# Altium footprint library Dien Tro.PcbLib: 30 footprints (part 2 of 2)
Each footprint in its own frame and in the unit in brackets; x right, y up, seen from the top. Pads: shape width x height; smd on the part's side, far side on the other; paste and mask are expansions set on the pad; w line width, h text height; cw(c..) or ccw(c..) is an arc to the next point about the centre after c.
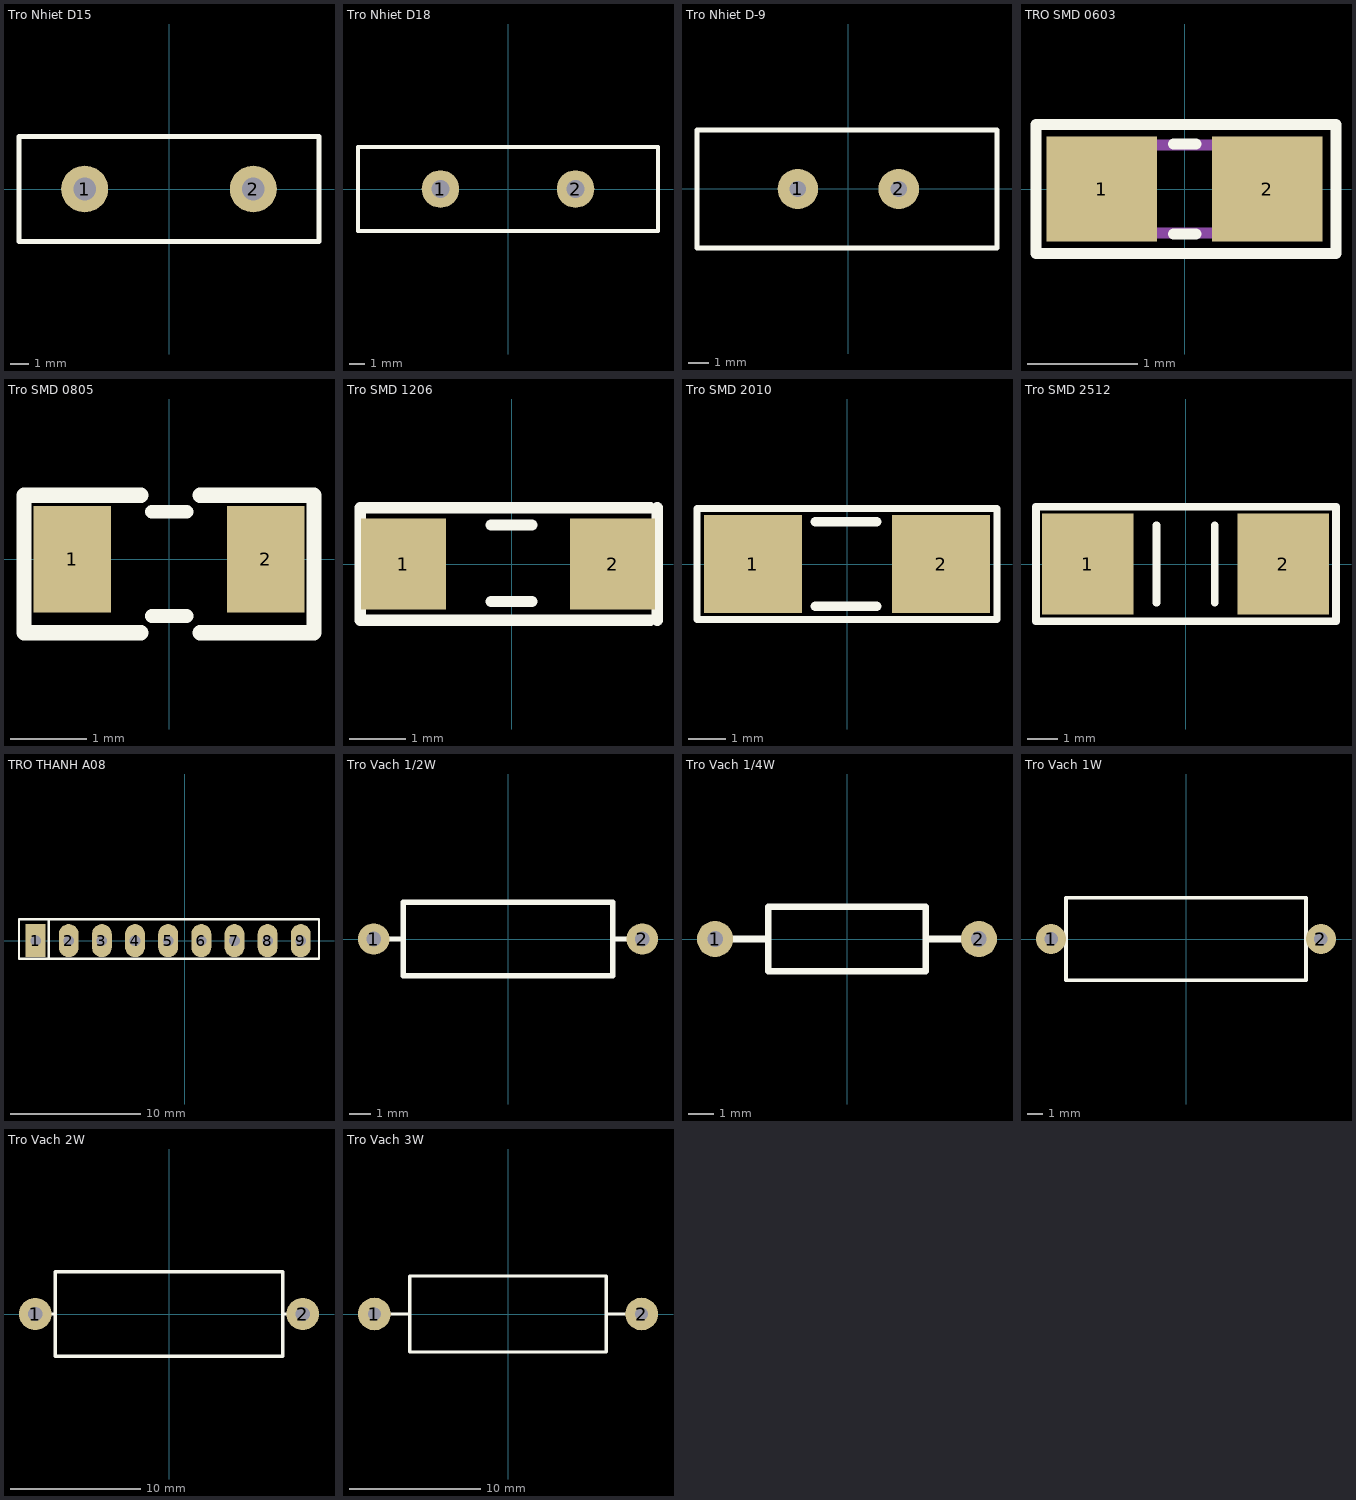
[diagram p1: the footprints below, top view; thin cyan lines are the x and y axes]

## Tro Nhiet D15 [mm]
pads (2):
  round 2.5 hole 1.2: 1(-4.5,0) 2(4.5,0)
Top Overlay:
  lines w0.254: -8,-2.794 8,-2.794 8,2.794 -8,2.794 -8,-2.794
3D body "Resistor thermistor 4.step": height 22.83, standoff -2.52, extent -8,-2.805 8,2.799

## Tro Nhiet D18 [mm]
pads (2):
  round 2.5 hole 1.2: 1(-4.5,0) 2(4.5,0)
Top Overlay:
  lines w0.254: -10,-2.794 10,-2.794 10,2.794 -10,2.794 -10,-2.794
3D body "Resistor thermistor 4.step": height 22.83, standoff -2.52, extent -8,-2.805 8,2.799

## Tro Nhiet D-9 [mm]
pads (2):
  round 2 hole 0.8: 1(-2.5,0) 2(2.5,0)
Top Overlay:
  lines w0.254: -7.493,-2.921 7.366,-2.921 7.366,2.921 -7.493,2.921 -7.493,-2.921
3D body "Resistor thermistor 5.step": height 23.5, standoff -8, extent -7.5,-3 7.5,3

## TRO SMD 0603 [mm] "Chip Capacitor, 2-Leads, Body 1,60x0,80mm, IPC Medium Density"
height 0.5
pads (2):
  rect 1x0.95 smd mask+0.076: 1(-0.75,0) 2(0.75,0)
Top Overlay:
  lines w0.102: -0.102,-0.406 0.102,-0.406 ; -0.102,0.406 0.102,0.406 ; -1.346,-0.584 1.372,-0.584 1.372,0.584 -1.346,0.584 -1.346,-0.584
Mechanical 13:
  lines w0.1: -0.8,-0.4 0.8,-0.4 0.8,0.4 -0.8,0.4 -0.8,-0.4
3D body "User Library-R SMD 0603.STEP": height 0.44, standoff -0.01, extent -0.82,-0.418 0.82,0.432

## Tro SMD 0805 [mm]
pads (2):
  rect 1.016x1.4 smd: 1(-1.27,0) 2(1.27,0)
Top Overlay:
  lines w0.178: -0.224,-0.747 0.233,-0.747 ; -0.224,0.625 0.233,0.625
  lines w0.2: -0.367,-0.965 -1.905,-0.965 -1.905,0.838 -0.367,0.838 ; 0.408,-0.965 1.905,-0.965 1.905,0.838 0.408,0.838
3D body "Tro 0805.STEP": height 0.53, standoff 0, extent -1.592,-0.829 1.408,0.571

## Tro SMD 1206 [mm]
pads (2):
  rect 1.5x1.6 smd: 1(-1.905,0) 2(1.778,0)
Top Overlay:
  lines w0.2: -0.356,-0.66 0.356,-0.66 ; -0.356,0.686 0.356,0.686 ; 2.438,-0.991 -2.667,-0.991 -2.667,0.991 2.438,0.991 ; 2.565,-0.991 2.565,-0.203 2.565,0.991
3D body "Resistor SMD 1206.step": height 0.6, standoff 0, extent -1.727,-0.8 1.473,0.8

## Tro SMD 2010 [mm]
pads (2):
  rect 2.6x2.6 smd: 1(-2.5,0) 2(2.5,0)
Top Overlay:
  lines w0.178: -3.988,-1.473 3.988,-1.473 3.988,1.473 -3.988,1.473 -3.988,-1.473
  lines w0.254: -0.838,-1.118 0.787,-1.118 ; -0.838,1.118 0.787,1.118
3D body "Tro 2010.step": height 0.59, standoff -0.01, extent -2.5,-1.25 2.5,1.25

## Tro SMD 2512 [mm]
pads (2):
  rect 3x3.3 smd: 1(-3.2,0) 2(3.2,0)
Top Overlay:
  lines w0.254: -0.953,-1.27 -0.953,1.27 ; 0.953,-1.27 0.953,1.27 ; -4.902,-1.88 -4.902,1.88 4.928,1.88 4.928,-1.88 -4.902,-1.88
3D body "Resistor SMD 2512.STEP": height 0.82, standoff 0.22, extent -3.121,-1.575 3.179,1.575

## TRO THANH A08 [mil] "R SIP8, 9 Pin"
height 200
pads (9):
  rect 60x100 hole 32: 1(-450,0)
  oval 60x100 hole 32: 2(-350,0) 3(-250,0) 4(-150,0) 5(-50,0) 6(50,0) 7(150,0) 8(250,0) 9(350,0)
Top Overlay:
  lines w7: -410,-55 -410,65 ; -500,-55 -500,65 405,65 405,-55 -500,-55
3D body "SW3dPS-Resistor Networks-1.STEP": height 259.29, standoff -75.35, extent -492.91,-44.21 392.91,5

## Tro Vach 1/2W [mm]
pads (2):
  round 1.5 hole 0.7: 1(-6.4,0) 2(6.4,0)
Top Overlay:
  lines w0.254: -5.842,0 -5.08,0 ; 5.08,0 5.842,0 ; -5,-1.75 -5,1.75 5,1.75 5,-1.75 -5,-1.75
3D body "Resistro_0.5w.STEP": height 3.5, standoff -3, extent -6.62,-1.75 6.62,1.75

## Tro Vach 1/4W [mm]
pads (2):
  round 1.4 hole 0.6: 1(-5.1,0) 2(5.1,0)
Top Overlay:
  lines w0.254: -4.394,0 -3.073,0 ; 3.099,0 4.42,0 ; -3.048,-1.25 3.048,-1.25 3.048,1.25 -3.048,1.25 -3.048,-1.25
3D body "Resistor 0.25W-1.step": height 2.41, standoff -2, extent -5.38,-1.2 5.38,1.2

## Tro Vach 1W [mm]
pads (2):
  round 2 hole 0.9: 1(-9,0) 2(9,0)
Top Overlay:
  lines w0.254: -9.144,0 -8.001,0 ; 8.001,0 9.144,0 ; -8,-2.75 -8,2.75 8,2.75 8,-2.75 -8,-2.75
3D body "Resitor 1W-1.step": height 6.5, standoff -4, extent -9.29,-2.996 9.29,2.996

## Tro Vach 2W [mm]
pads (2):
  round 2.5 hole 1.1: 1(-10.3,0) 2(10.3,0)
Top Overlay:
  lines w0.254: -9.271,0 -8.763,0 ; 8.763,0 9.144,0 ; -8.75,-3.25 -8.75,3.25 8.75,3.25 8.75,-3.25 -8.75,-3.25
3D body "Resistor_2W_3.STEP": height 5.5, standoff -4.54, extent -10.56,-2.501 10.56,2.501

## Tro Vach 3W [mm]
pads (2):
  round 2.5 hole 1: 1(-10.2,0) 2(10.2,0)
Top Overlay:
  lines w0.254: -9.017,0 -7.493,0 ; 7.62,0 9.017,0 ; -7.5,-2.9 7.5,-2.9 7.5,2.9 -7.5,2.9 -7.5,-2.9
3D body "Resistor 3w.STEP": height 7.5, standoff -1.58, extent -10.56,-2.5 10.56,2.5